# EAGLE library part PLP-90 (library minicirNew)
Low Pass Filter Source: minicircuits.com .. PLP-90+.pdf
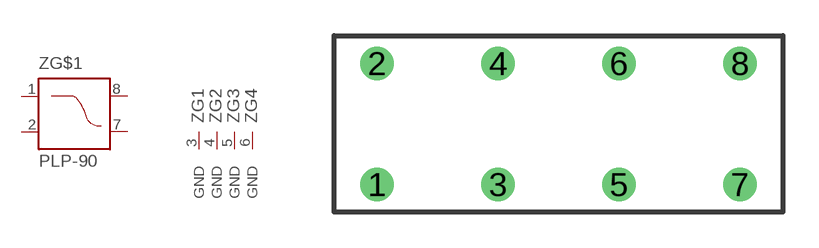
[diagram p1: symbol with the pads of A01; footprint A01]

Designator prefix Z; gates G$1=LOW-PASS G1=GROUND G2=GROUND G3=GROUND G4=GROUND

## PLP-90  [A01]
1  G$1:IN  in
2  G$1:GND  in
3  G1:GND  pwr
4  G2:GND  pwr
5  G3:GND  pwr
6  G4:GND  pwr
7  G$1:GND  in
8  G$1:OUT  in

## Footprint A01 (pad centres in mm)
CASE STYLE A01 Source: minicircuits.com .. PBP-10.7+.pdf
drill 0.9 pad 1.422: 1 -10.16,-3.81; 2 -10.16,1.27; 3 -5.08,-3.81; 4 -5.08,1.27; 5 0,-3.81; 6 0,1.27; 7 5.08,-3.81; 8 5.08,1.27